# EAGLE library part SW_DPDT_PHA (library wheat)
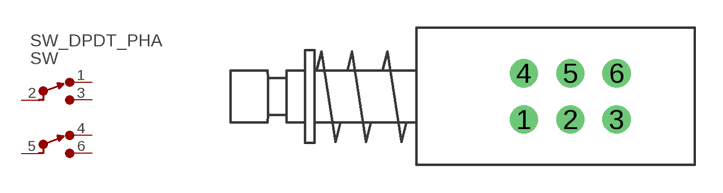
[diagram p171: symbol with the pads of SW_DPDT_PHA; footprint SW_DPDT_PHA]

Designator prefix SW

## SW_DPDT_PHA  [SW_DPDT_PHA]
1  NC1  pas
2  C1  pas
3  NO1  pas
4  NC2  pas
5  C2  pas
6  NO2  pas

## Footprint SW_DPDT_PHA (pad centres in mm)
drill 1.016 pad 1.499: 1 11.8,-1.25; 2 14.3,-1.25; 3 16.8,-1.25; 4 11.8,1.25; 5 14.3,1.25; 6 16.8,1.25